# Altium schematic symbol library MCP4018.SchLib: 1 symbol
Pins are listed as number, name and electrical type; pins without a type are passive.

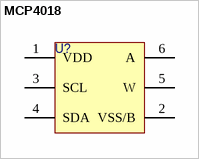
[diagram p0: symbol MCP4018]

## MCP4018
designator U?
pins: 1 VDD, 2 VSS/B, 3 SCL, 4 SDA, 5 W, 6 A